# Altium schematic symbol library T821112A1S100CEU.SchLib: 2 symbols
Pins are listed as number, name and electrical type; pins without a type are passive.

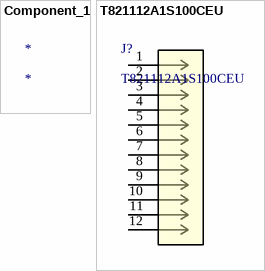
[diagram p0: symbols Component_1 to T821112A1S100CEU]

## Component_1
designator *

## T821112A1S100CEU
designator J?
No Description Available; Mfr_Name: Amphenol ICC; Copyright: Copyright (C) 2022 Ultra Librarian. All rights reserved.; Manufacturer_Part_Number: T821112A1S100CEU; RefDes: RefDes; Type: DEV
footprint CONN_T821112A1S100CEU_AMP
pins: 1, 2, 3, 4, 5, 6, 7, 8, 9, 10, 11, 12